# Altium footprint library Connectors.PcbLib: 80 footprints (part 3 of 5)
Each footprint in its own frame and in the unit in brackets; x right, y up, seen from the top. Pads: shape width x height; smd on the part's side, far side on the other; paste and mask are expansions set on the pad; w line width, h text height; cw(c..) or ccw(c..) is an arc to the next point about the centre after c.
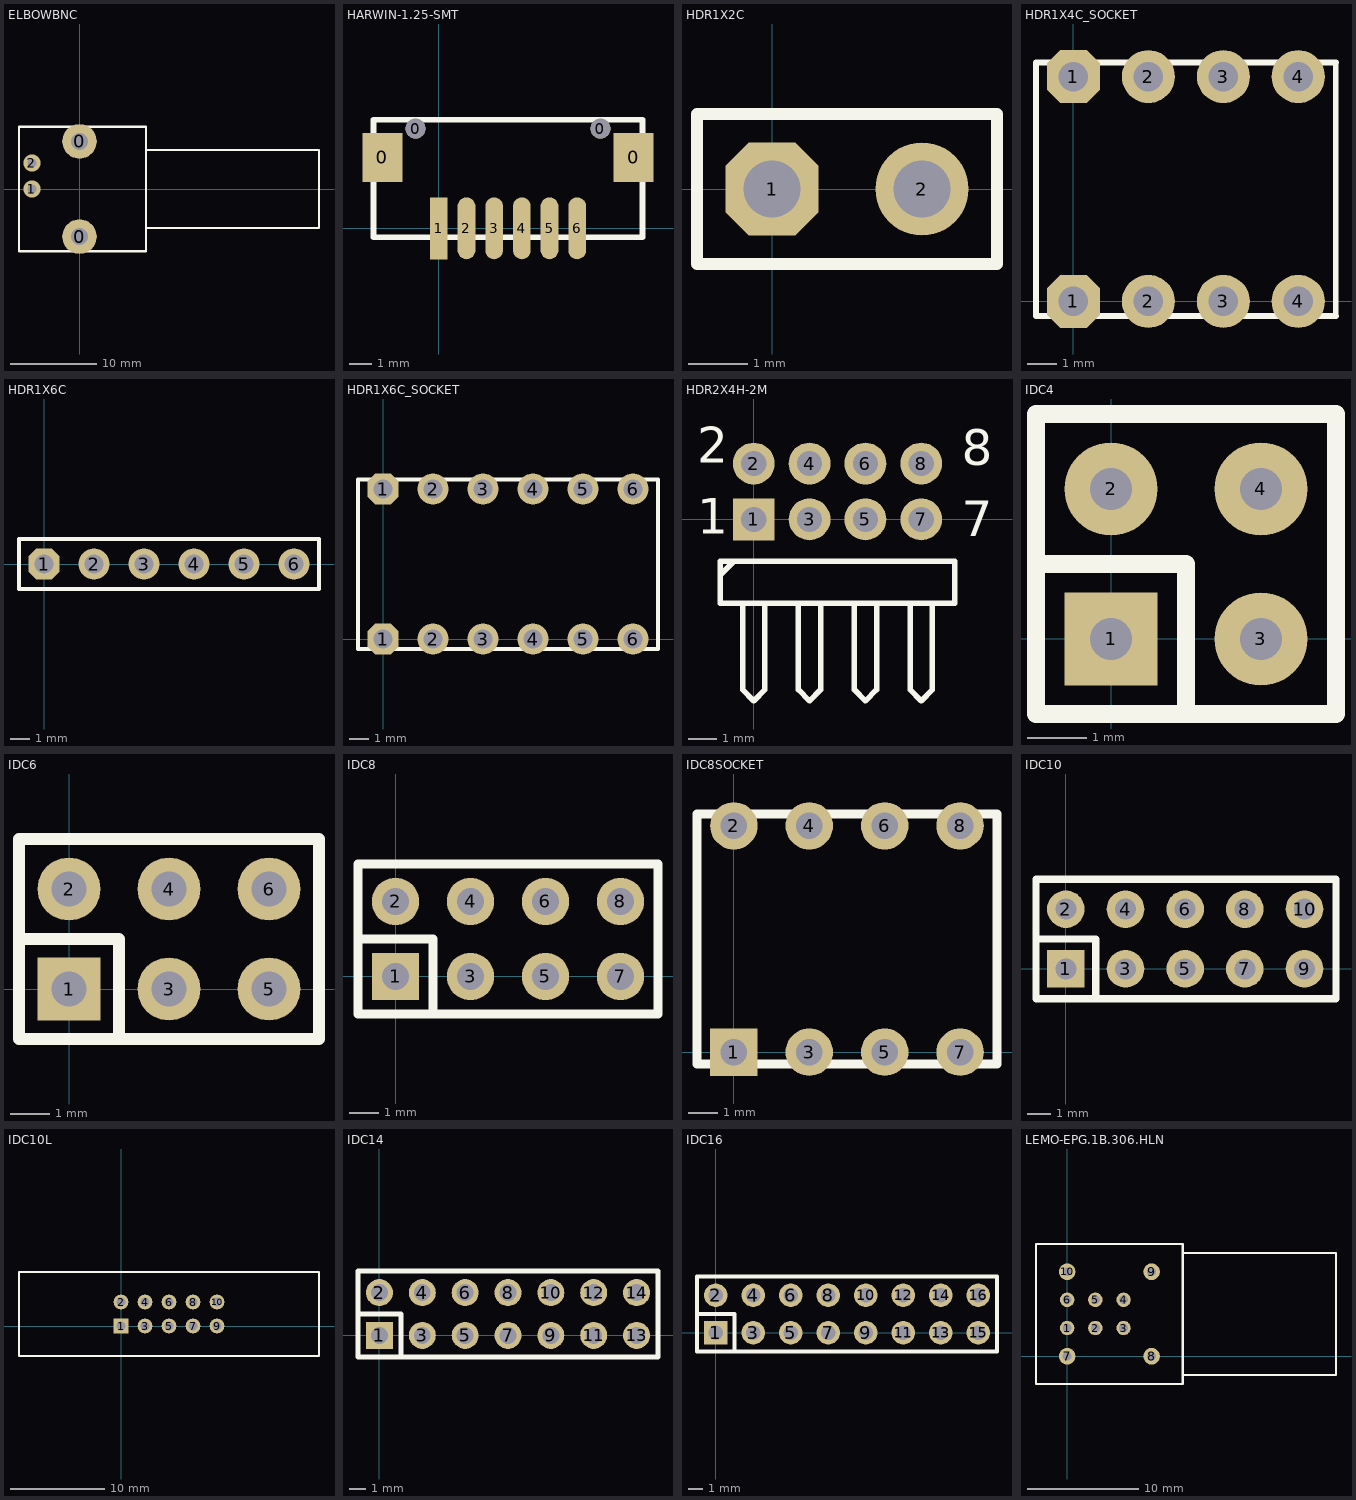
[diagram p2: the footprints below, top view; thin cyan lines are the x and y axes]

## ELBOWBNC [mm]
pads (4):
  round 4 hole 2: 0(0,-5.5) 0(0,5.5)
  round 2 hole 1: 1(-5.5,0) 2(-5.5,3)
TopOverlay:
  lines w0.254: 7.7,-4.5 27.7,-4.5 27.7,4.5 7.7,4.5 ; -7,-7.2 -7,7.2 7.7,7.2 7.7,-7.2 -7,-7.2

## HARWIN-1.25-SMT [mm]
pads (10):
  rect 1.8x2.2 smd: 0(-2.55,3.2) 0(8.8,3.2)
  round 0.9 hole 0.9: 0(-1.05,4.5) 0(7.3,4.5)
  rect 0.8x2.8 smd: 1(0,0)
  oval 0.8x2.8 smd: 2(1.25,0) 3(2.5,0) 4(3.75,0) 5(5,0) 6(6.25,0)
TopOverlay:
  lines w0.25: -2.95,-0.4 -2.95,4.9 9.2,4.9 9.2,-0.4 0,-0.4 -2.95,-0.4

## HDR1X2C [mil]
pads (2):
  oct 62x62 hole 38: 1(0,0)
  round 62 hole 38: 2(100,0)
TopOverlay:
  lines w8: -50,-50 150,-50 150,50 -50,50 -50,-50

## HDR1X4C_SOCKET [mm]
pads (8):
  oct 1.8x1.8 hole 1: 1(0,0) 1(0,7.62)
  round 1.8 hole 1: 2(2.54,0) 2(2.54,7.62) 3(5.08,0) 3(5.08,7.62) 4(7.62,0) 4(7.62,7.62)
TopOverlay:
  lines w0.2: -1.27,-0.5 -1.27,8.1 ; 8.89,-0.5 8.89,8.1
  lines w0.203: -1.27,-0.5 8.9,-0.5 ; -1.27,8.1 8.9,8.1

## HDR1X6C [mil]
pads (6):
  oct 62x62 hole 38: 1(0,0)
  round 62 hole 38: 2(100,0) 3(200,0) 4(300,0) 5(400,0) 6(500,0)
TopOverlay:
  lines w8: -50,-50 -50,50 550,50 550,-50 -50,-50

## HDR1X6C_SOCKET [mil]
pads (12):
  oct 62x62 hole 38: 1(0,0) 1(0,300)
  round 62 hole 38: 2(100,0) 2(100,300) 3(200,0) 3(200,300) 4(300,0) 4(300,300) 5(400,0) 5(400,300) 6(500,0) 6(500,300)
TopOverlay:
  lines w7.87: -50,-19.68 -50,318.9 ; 550,-19.68 550,318.9
  lines w8: -50,-19.68 550,-19.68 ; -50,318.9 550,318.9

## HDR2X4H-2M [mm]
pads (8):
  rect 1.5x1.5 hole 0.9: 1(0,0)
  round 1.5 hole 0.9: 2(0,2) 3(2,0) 4(2,2) 5(4,0) 6(4,2) 7(6,0) 8(6,2)
TopOverlay:
  lines w0.2: -1.2,-2 -0.7,-1.5 ; -0.4,-3 -0.4,-6.1 0,-6.5 0.4,-6.1 0.4,-3 ; 1.6,-3 1.6,-6.1 2,-6.5 2.4,-6.1 2.4,-3 ; 3.6,-3 3.6,-6.1 4,-6.5 4.4,-6.1 4.4,-3 ; 5.6,-3 5.6,-6.1 6,-6.5 6.4,-6.1 6.4,-3 ; -1.2,-3 -1.2,-1.5 7.2,-1.5 7.2,-3 -1.2,-3
  text "8" at 7.444,1.932 h1.27
  text "7" at 7.444,-0.608 h1.27
  text "1" at -2.032,-0.508 h1.27
  text "2" at -2.032,2.032 h1.27

## IDC4 [mil]
pads (4):
  rect 62x62 hole 28: 1(0,0)
  round 62 hole 28: 2(0,100) 3(100,0) 4(100,100)
TopOverlay:
  lines w12: -50,50 50,50 50,-50 ; -50,-50 -50,150 150,150 150,-50 -50,-50

## IDC6 [mm]
pads (6):
  rect 1.6x1.6 hole 0.9: 1(0,0)
  round 1.6 hole 0.9: 2(0,2.54) 3(2.54,0) 4(2.54,2.54) 5(5.08,0) 6(5.08,2.54)
TopOverlay:
  lines w0.305: -1.27,1.27 1.27,1.27 1.27,-1.27 ; -1.27,-1.27 6.35,-1.27 6.35,3.81 -1.27,3.81 -1.27,-1.27

## IDC8 [mm]
pads (8):
  rect 1.6x1.6 hole 0.9: 1(0,0)
  round 1.6 hole 0.9: 2(0,2.54) 3(2.54,0) 4(2.54,2.54) 5(5.08,0) 6(5.08,2.54) 7(7.62,0) 8(7.62,2.54)
TopOverlay:
  lines w0.305: -1.27,1.27 1.27,1.27 1.27,-1.27 ; -1.27,-1.27 -1.27,3.81 8.89,3.81 8.89,-1.27 -1.27,-1.27

## IDC8SOCKET [mm]
pads (8):
  rect 1.6x1.6 hole 0.9: 1(0,0)
  round 1.6 hole 0.9: 2(0,7.62) 3(2.54,0) 4(2.54,7.62) 5(5.08,0) 6(5.08,7.62) 7(7.62,0) 8(7.62,7.62)
TopOverlay:
  lines w0.305: -1.24,-0.4 8.86,-0.4 8.86,8.02 -1.24,8.02 -1.24,-0.4

## IDC10 [mm]
pads (10):
  rect 1.6x1.6 hole 0.9: 1(0,0)
  round 1.6 hole 0.9: 2(0,2.54) 3(2.54,0) 4(2.54,2.54) 5(5.08,0) 6(5.08,2.54) 7(7.62,0) 8(7.62,2.54) 9(10.16,0) 10(10.16,2.54)
TopOverlay:
  lines w0.305: -1.27,1.27 1.27,1.27 1.27,-1.27 ; -1.27,-1.27 11.5,-1.27 11.5,3.81 -1.27,3.81 -1.27,-1.27

## IDC10L [mil] "tritium driver display header"
pads (10):
  rect 62x62 hole 39.37: 1(0,0)
  round 62 hole 39.37: 2(0,100) 3(100,0) 4(100,100) 5(200,0) 6(200,100) 7(300,0) 8(300,100) 9(400,0) 10(400,100)
TopOverlay:
  lines w7.87: -425,-125 -425,225 825,225 825,-125 -425,-125

## IDC14 [mm]
pads (14):
  rect 1.6x1.6 hole 1: 1(0,0)
  round 1.6 hole 1: 2(0,2.54) 3(2.54,0) 4(2.54,2.54) 5(5.08,0) 6(5.08,2.54) 7(7.62,0) 8(7.62,2.54) 9(10.16,0) 10(10.16,2.54) 11(12.7,0) 12(12.7,2.54) 13(15.24,0) 14(15.24,2.54)
TopOverlay:
  lines w0.3: -1.27,1.27 1.2,1.27 ; 1.27,-1.27 1.27,1.27 ; -1.27,-1.27 16.51,-1.27 16.51,3.81 -1.27,3.81 -1.27,-1.27

## IDC16 [mm]
pads (16):
  rect 1.6x1.6 hole 1: 1(0,0)
  round 1.6 hole 1: 2(0,2.54) 3(2.54,0) 4(2.54,2.54) 5(5.08,0) 6(5.08,2.54) 7(7.62,0) 8(7.62,2.54) 9(10.16,0) 10(10.16,2.54) 11(12.7,0) 12(12.7,2.54) 13(15.24,0) 14(15.24,2.54) 15(17.78,0) 16(17.78,2.54)
TopOverlay:
  lines w0.3: -1.27,1.27 1.2,1.27 ; 1.27,-1.27 1.27,1.27 ; -1.27,-1.27 -1.27,3.81 19.05,3.81 19.05,-1.27 -1.27,-1.27

## LEMO-EPG.1B.306.HLN [mm] "lemo connector, used in tritium"
pads (10):
  round 1.3 hole 0.8: 1(0,2.54) 2(2.54,2.54) 3(5.08,2.54) 4(5.08,5.08) 5(2.54,5.08) 6(0,5.08)
  round 1.5 hole 0.8: 7(0,0) 8(7.6,0) 9(7.6,7.6) 10(0,7.6)
TopOverlay:
  lines w0.2: 10.4,-1.7 24.2,-1.7 24.2,9.3 10.4,9.3 ; -2.8,-2.5 -2.8,10.1 10.4,10.1 10.4,-2.5 -2.8,-2.5